# Altium footprint library PCB_LIB.PcbLib: 15 footprints
Each footprint in its own frame and in the unit in brackets; x right, y up, seen from the top. Pads: shape width x height; smd on the part's side, far side on the other; paste and mask are expansions set on the pad; w line width, h text height; cw(c..) or ccw(c..) is an arc to the next point about the centre after c.
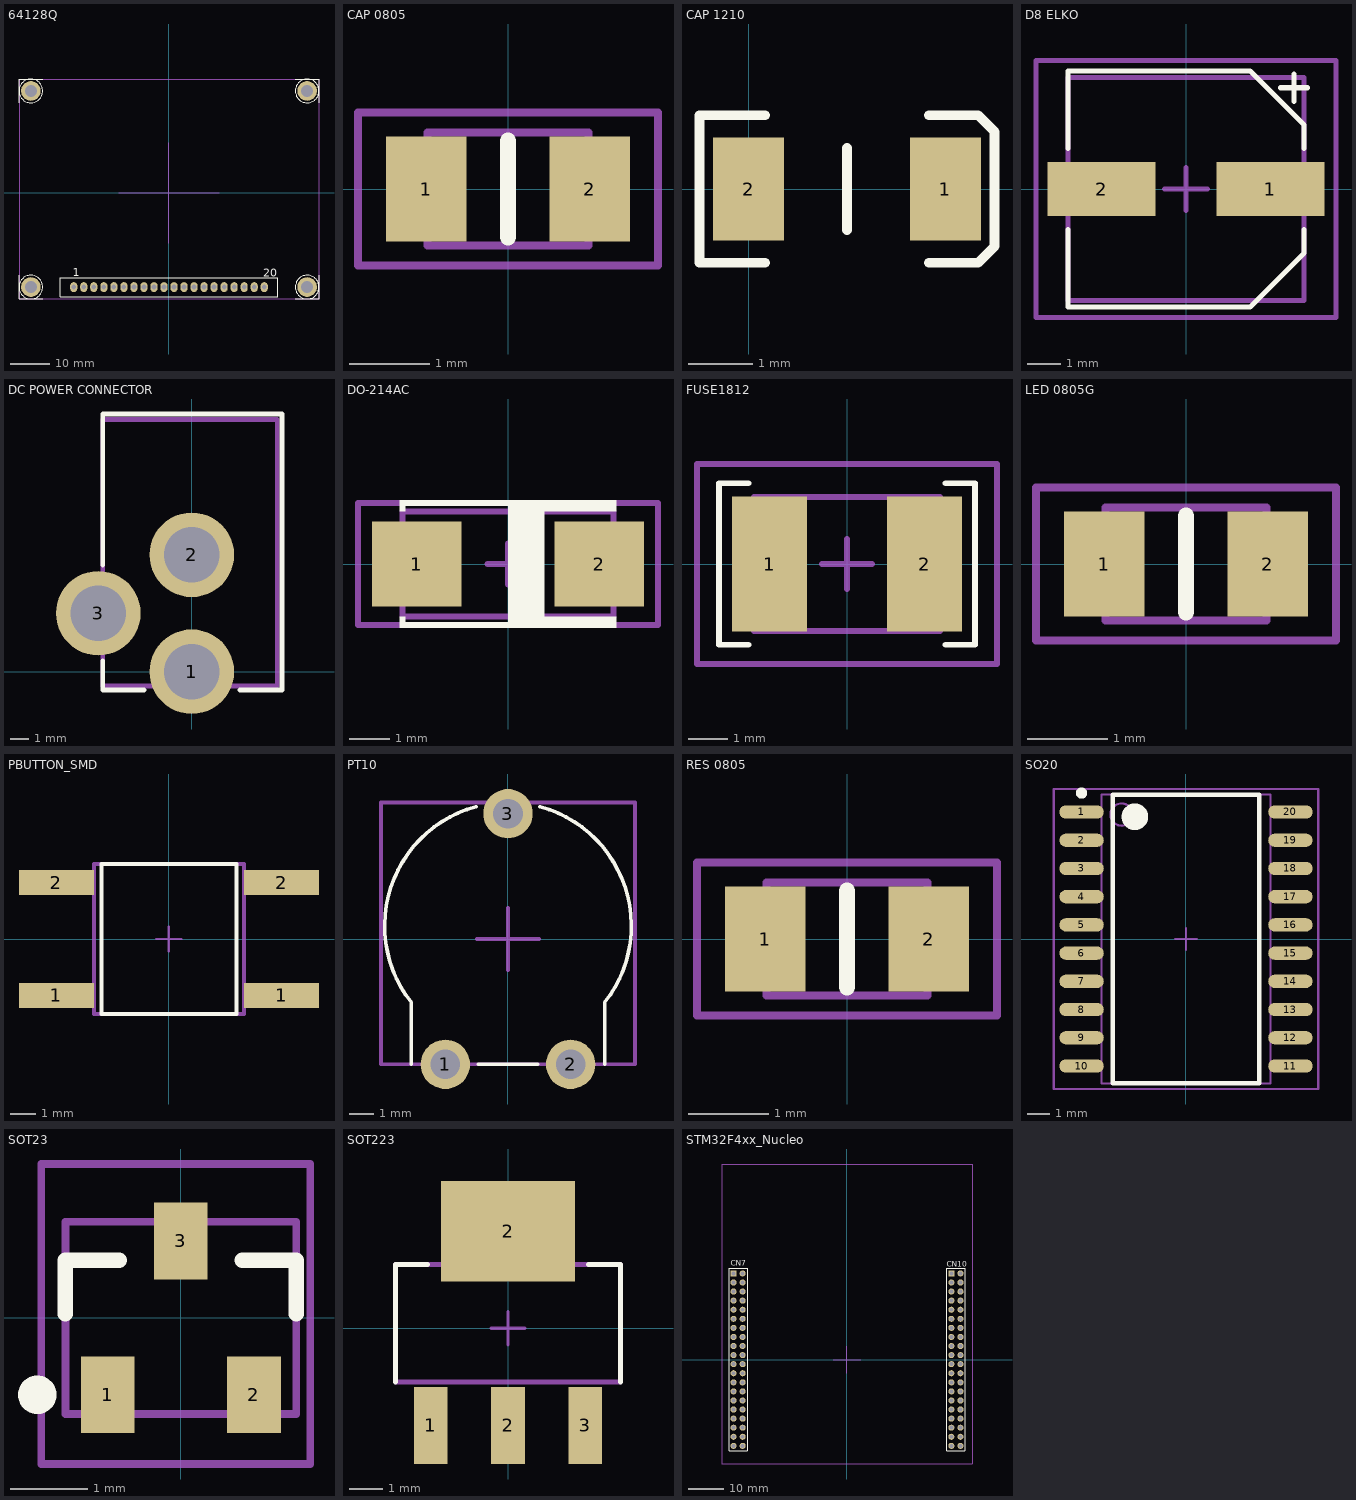
[diagram p0: the footprints below, top view; thin cyan lines are the x and y axes]

## 64128Q [mm] "64x128 pixel graphical LCD display"
pads (24):
  oval 1.8x2.5 hole 1.2: 1(-24.13,-23.85) 2(-21.59,-23.85) 3(-19.05,-23.85) 4(-16.51,-23.85) 5(-13.97,-23.85) 6(-11.43,-23.85) 7(-8.89,-23.85) 8(-6.35,-23.85) 9(-3.81,-23.85) 10(-1.27,-23.85) 11(1.27,-23.85) 12(3.81,-23.85) 13(6.35,-23.85) 14(8.89,-23.85) 15(11.43,-23.85) 16(13.97,-23.85) 17(16.51,-23.85) 18(19.05,-23.85) 19(21.59,-23.85) 20(24.13,-23.85)
  round 5 hole 3 unplated: ""(-35,-23.85) ""(-35,25.85) ""(35,-23.85) ""(35,25.85)
Top Overlay:
  circle w0.15: c-35,-23.85 r3
  circle w0.15: c35,-23.85 r3
  circle w0.15: c35,25.85 r3
  circle w0.15: c-35,25.85 r3
  lines w0.15: -38,-20.85 -38,-26.85 -32,-26.85 ; -38,22.85 -38,28.85 -32,28.85 ; 32,-26.85 38,-26.85 38,-20.85 ; 32,28.85 38,28.85 38,22.85 ; -27.5,-26.35 -27.5,-21.5 27.5,-21.5 27.5,-26.35 -27.5,-26.35
  text "1" at -24.409,-21.149 h2
  text "20" at 23.927,-21.174 h2
Mechanical 13:
  lines w0.15: -38,-26.85 38,-26.85 38,28.85 -38,28.85 -38,-26.85
Mechanical 15:
  lines w0.3: -12.7,0 12.7,0 ; 0,-12.7 0,12.7
3D body "64128.x_b": height 15.9, standoff -3, extent -38,-26.85 38,28.85

## CAP 0805 [mm] "0805 CAPACITOR"
pads (2):
  rect 1x1.3 smd: 1(-1.016,0) 2(1.016,0)
Top Overlay:
  lines w0.2: 0,-0.6 0,0.6
Mechanical 13:
  lines w0.1: -1,-0.7 -1,0.7 1,0.7 1,-0.7 -1,-0.7
Mechanical 15:
  lines w0.1: -1.866,-0.95 -1.866,0.95 1.866,0.95 1.866,-0.95 -1.866,-0.95
3D body "0805_Barna_C.STEP": height 0.6, standoff 0, extent -1,-0.635 1,0.615

## CAP 1210 [mm] "POLARIZED CAPACITOR"
pads (2):
  rect 1.1x1.6 smd: 1(3.048,0) 2(0,0)
Top Overlay:
  lines w0.15: 0.254,-1.143 -0.762,-1.143 -0.762,1.143 0.254,1.143 ; 1.524,-0.635 1.524,0.635 ; 2.794,-1.143 3.556,-1.143 3.81,-0.889 3.81,0.889 3.556,1.143 2.794,1.143
3D body "User Library-Tantalum Capacitor Case A.STEP": height 1.65, standoff 0, extent -0.174,-0.8 3.216,0.8

## D8 ELKO [mm] "D8 size electrolit capacitor 6.3mmx7.7mm"
pads (2):
  rect 3.2x1.6 smd: 1(2.5,0) 2(-2.5,0)
Top Overlay:
  lines w0.15: -3.5,-1.2 -3.5,-3.5 1.9,-3.5 3.5,-1.9 3.5,-1.2 ; -3.5,1.2 -3.5,3.5 1.9,3.5 3.5,1.9 3.5,1.2 ; 2.8,3 3.6,3 ; 3.2,2.6 3.2,3.4
Mechanical 13:
  lines w0.15: -3.5,-3.3 -3.5,3.3 3.5,3.3 3.5,-3.3 -3.5,-3.3
Mechanical 15:
  lines w0.15: -0.635,0 0.635,0 ; 0,-0.635 0,0.635 ; -4.445,-3.81 4.445,-3.81 4.445,3.81 -4.445,3.81 -4.445,-3.81
3D body "ALU-D8.STEP": height 7.7, standoff 0, extent -3.5,-3.3 3.5,3.3

## DC POWER CONNECTOR [mm] "DC POWER CONNECTOR 5.5/2.1/9.5mm"
height 10.7
pads (3):
  round 4.6 hole 3: 1(0,0) 2(0,6.35) 3(-5.08,3.175)
Top Overlay:
  lines w0.254: -4.836,0.6 -4.836,-1 -2.6,-1 ; -4.836,5.8 -4.836,14 4.9,14 4.9,-1 2.6,-1
Mechanical 1:
  lines w0.254: -4.836,-0.778 4.636,-0.778 4.636,13.7 -4.836,13.7 -4.836,-0.778
3D body "kycon kld-0202-a.step": height 11.18, standoff -3.6, extent -4.836,-0.778 4.636,13.7

## DO-214AC [mm] "SMA DO-214AC"
height 2.2
pads (2):
  rect 2.2x2.1 smd: 1(-2.25,0) 2(2.25,0)
Top Overlay:
  rectangle: 0,-1.575 0.9,1.575
  rectangle: 0.275,-1.575 2.675,-1.3
  rectangle: 0.275,1.3 2.675,1.575
  rectangle: -2.675,-1.575 -2.525,-1.3
  rectangle: -2.675,1.3 -2.525,1.575
  lines w0.15: -2.6,-1.5 2.6,-1.5 2.6,-1.375 ; -2.6,1.5 2.6,1.5 2.6,1.375
Mechanical 13:
  lines w0.15: -2.6,-1.3 -2.6,1.3 2.6,1.3 2.6,-1.3 -2.6,-1.3
Mechanical 15:
  lines w0.15: -0.5,0 0.5,0 ; 0,-0.5 0,0.5 ; -3.7,-1.5 3.7,-1.5 3.7,1.5 -3.7,1.5 -3.7,-1.5
3D body "SMA.STEP": height 2.42, standoff 0.02, extent -2.6,-1.3 2.6,1.3

## FUSE1812 [mil] "Multifuse"
pads (2):
  rect 75x135 smd: 1(-77.5,0) 2(77.5,0)
Top Overlay:
  lines w5.91: 98.43,-80.71 127.95,-80.71 127.95,80.71 98.43,80.71 ; -127.95,-80.71 -127.95,80.71 ; -127.95,-80.71 -98.43,-80.71 -127.95,-80.71 ; -127.95,-80.71 -127.95,80.71 ; -127.95,80.71 -98.43,80.71 -127.95,80.71
Mechanical 13:
  lines w5.91: -93.1,-67.12 93.12,-67.12 93.12,67.13 -93.1,67.13 -93.1,-67.12
Mechanical 15:
  lines w5.91: -25,0 25,0 ; 0,-25 0,25 ; -150,-100 -150,100 150,100 150,-100 -150,-100
3D body "1812L.step": height 52.8, standoff 0, extent -93.1,-67.12 93.12,67.13

## LED 0805G [mm] "0805 GREEN LED"
pads (2):
  rect 1x1.3 smd: 1(-1.016,0) 2(1.016,0)
Top Overlay:
  lines w0.2: 0,-0.6 0,0.6
Mechanical 13:
  lines w0.1: -1,-0.7 1,-0.7 1,0.7 -1,0.7 -1,-0.7
Mechanical 15:
  lines w0.1: -1.866,-0.95 -1.866,0.95 1.866,0.95 1.866,-0.95 -1.866,-0.95
3D body "LED_0805 (GREEN).STEP": height 1.1, standoff 0, extent -1.01,-0.625 1.01,0.625

## PBUTTON_SMD [mm]
pads (4):
  rect 3x1 smd: 1(-4.5,-2.25) 1(4.5,-2.25) 2(-4.5,2.25) 2(4.5,2.25)
Top Overlay:
  lines w0.15: -2.7,-3 2.7,-3 2.7,3 -2.7,3 -2.7,-3
Mechanical 13:
  lines w0.15: -3,-3 -3,3 3,3 3,-3 -3,-3
Mechanical 15:
  lines w0.1: -0.5,0 0.5,0 ; 0,-0.5 0,0.5
3D body "User Library-FSM4JSMATR - TE Connectivity - SPST 6mm Tactile Switch.step": height 4.95, standoff -0.02, extent -5,-3 5,3

## PT10 [mm] "10mm horizontal potentiometer"
pads (3):
  round 2 hole 1.2: 1(-2.54,-5.08) 2(2.54,-5.08) 3(0,5.08)
Top Overlay:
  lines w0.15: -3.917,-5.08 -3.917,-2.575 cw(c0,0.533) -1.294,5.363 ; -1.2,-5.08 0,-5.08 1.2,-5.08 ; 1.294,5.363 cw(c0,0.533) 3.917,-2.575 3.917,-5.08
Mechanical 13:
  lines w0.15: -5.15,-5.08 5.15,-5.08 5.15,5.531 -5.15,5.531 -5.15,-5.08
Mechanical 15:
  lines w0.15: -1.27,0 1.27,0 ; 0,-1.27 0,1.27
3D body "PT10LV.step": height 6.26, standoff -3.5, extent -5.15,-5.069 5.15,5.531

## RES 0805 [mm] "0805 Resistor"
pads (2):
  rect 1x1.3 smd: 1(-1.016,0) 2(1.016,0)
Top Overlay:
  lines w0.2: 0,-0.6 0,0.6
Mechanical 13:
  lines w0.1: -1,-0.7 1,-0.7 1,0.7 -1,0.7 -1,-0.7
Mechanical 15:
  lines w0.1: -1.866,-0.95 -1.866,0.95 1.866,0.95 1.866,-0.95 -1.866,-0.95
3D body "0805_Fekete_R.STEP": height 0.6, standoff 0, extent -1,-0.635 1,0.615

## SO20 [mm]
pads (20):
  oval 2x0.6 smd: 1(-4.7,5.715) 2(-4.7,4.445) 3(-4.7,3.175) 4(-4.7,1.905) 5(-4.7,0.635) 6(-4.7,-0.635) 7(-4.7,-1.905) 8(-4.7,-3.175) 9(-4.7,-4.445) 10(-4.7,-5.715) 11(4.7,-5.715) 12(4.7,-4.445) 13(4.7,-3.175) 14(4.7,-1.905) 15(4.7,-0.635) 16(4.7,0.635) 17(4.7,1.905) 18(4.7,3.175) 19(4.7,4.445) 20(4.7,5.715)
Top Overlay:
  circle w0.25: c-4.7,6.565 r0.125
  circle w0.6: c-2.3,5.5 r0.3
  lines w0.2: -3.3,-6.5 -3.3,6.5 3.3,6.5 3.3,-6.5 -3.3,-6.5
Mechanical 13:
  circle w0.1: c-2.9,5.6 r0.5
  lines w0.1: -3.8,-6.5 -3.8,6.5 3.8,6.5 3.8,-6.5 -3.8,-6.5
Mechanical 15:
  lines w0.1: -0.5,0 0.5,0 ; 0,-0.5 0,0.5 ; -5.95,-6.75 -5.95,6.75 5.95,6.75 5.95,-6.75 -5.95,-6.75
3D body "SO-20 (Wide).STEP": height 2.7, standoff 0, extent -5.15,-6.4 5.15,6.4

## SOT23 [mm]
pads (3):
  rect 0.7x1 smd: 1(-0.95,-1) 2(0.95,-1) 3(0,1)
Top Overlay:
  circle w0.25: c-1.866,-1 r0.125
  lines w0.2: -1.5,0.05 -1.5,0.75 -0.8,0.75 ; 0.8,0.75 1.5,0.75 1.5,0.05
Mechanical 13:
  lines w0.1: -1.5,-1.25 1.5,-1.25 1.5,1.25 -1.5,1.25 -1.5,-1.25
Mechanical 15:
  lines w0.1: -1.816,-1.9 1.684,-1.9 1.684,2 -1.816,2 -1.816,-1.9
3D body "SOT23.step": height 1.09, standoff 0, extent -1.5,-1.25 1.5,1.25

## SOT223 [mm]
pads (4):
  rect 1x2.3 smd: 1(-2.3,-2.9) 2(0,-2.9) 3(2.3,-2.9)
  rect 4x3 smd: 2(0,2.9)
Top Overlay:
  lines w0.15: -3.35,-1.6 -3.35,1.9 -2.4,1.9 ; 2.4,1.9 3.35,1.9 3.35,-1.6
Mechanical 13:
  lines w0.15: -3.35,-1.6 3.35,-1.6 3.35,1.9 -3.35,1.9 -3.35,-1.6
Mechanical 15:
  lines w0.1: -0.5,0 0.5,0 ; 0,-0.5 0,0.5
3D body "User Library-SOT-223-1.step": height 1.64, standoff -0.01, extent -3.25,-3.4 3.25,3.6

## STM32F4xx_Nucleo [mm] "STM32F4xx Nucleo board"
height 11
pads (80):
  round 1.7 hole 1.1: 0(-31.75,-24.13) 0(-29.21,-24.13) 0(29.21,-24.13) 0(31.75,-24.13) 2(-29.21,24.13) 3(-31.75,21.59) 4(-29.21,21.59) 5(-31.75,19.05) 6(-29.21,19.05) 7(-31.75,16.51) 8(-29.21,16.51) 9(-31.75,13.97) 10(-29.21,13.97) 11(-31.75,11.43) 12(-29.21,11.43) 13(-31.75,8.89) 14(-29.21,8.89) 15(-31.75,6.35) 16(-29.21,6.35) 17(-31.75,3.81) 18(-29.21,3.81) 19(-31.75,1.27) 20(-29.21,1.27) 21(-31.75,-1.27) 22(-29.21,-1.27) 23(-31.75,-3.81) 24(-29.21,-3.81) 25(-31.75,-6.35) 26(-29.21,-6.35) 27(-31.75,-8.89) 28(-29.21,-8.89) 29(-31.75,-11.43) 30(-29.21,-11.43) 31(-31.75,-13.97) 32(-29.21,-13.97) 33(-31.75,-16.51) 34(-29.21,-16.51) 35(-31.75,-19.05) 36(-29.21,-19.05) 37(-31.75,-21.59) 38(-29.21,-21.59) 40(31.75,24.13) 41(29.21,21.59) 42(31.75,21.59) 43(29.21,19.05) 44(31.75,19.05) 45(29.21,16.51) 46(31.75,16.51) 47(29.21,13.97) 48(31.75,13.97) 49(29.21,11.43) 50(31.75,11.43) 51(29.21,8.89) 52(31.75,8.89) 53(29.21,6.35) 54(31.75,6.35) 55(29.21,3.81) 56(31.75,3.81) 57(29.21,1.27) 58(31.75,1.27) 59(29.21,-1.27) 60(31.75,-1.27) 61(29.21,-3.81) 62(31.75,-3.81) 63(29.21,-6.35) 64(31.75,-6.35) 65(29.21,-8.89) 66(31.75,-8.89) 67(29.21,-11.43) 68(31.75,-11.43) 69(29.21,-13.97) 70(31.75,-13.97) 71(29.21,-16.51) 72(31.75,-16.51) 73(29.21,-19.05) 74(31.75,-19.05) 75(29.21,-21.59) 76(31.75,-21.59)
  rect 1.7x1.7 hole 1.1: 1(-31.75,24.13) 39(29.21,24.13)
Top Overlay:
  lines w0.2: -32.98,-25.525 -27.98,-25.525 -27.98,25.525 -32.98,25.525 -32.98,-25.525 ; 27.98,-25.525 32.98,-25.525 32.98,25.525 27.98,25.525 27.98,-25.525
  text "CN10" at 27.925,26.05 h1.52
  text "CN7" at -32.475,26.25 h1.52
Mechanical 13:
  lines w0.254: -35,-29.21 -35,54.755 35,54.755 35,-29.21 -35,-29.21
Mechanical 15:
  lines w0.2: -3.81,0 3.81,0 ; 0,-3.81 0,3.81
3D body "2x20header.stp": height 8.5, standoff -3.2, extent -32.98,-25.525 -27.98,25.525
3D body "2x20header.stp": height 8.5, standoff -3.2, extent 27.98,-25.525 32.98,25.525